# EAGLE library part TLV2170 (library ICs)
TLVx170 36-V, Single-Supply, EMI-Hardened, Low-Power Operational Amplifiers for Cost-Sensitive Systems
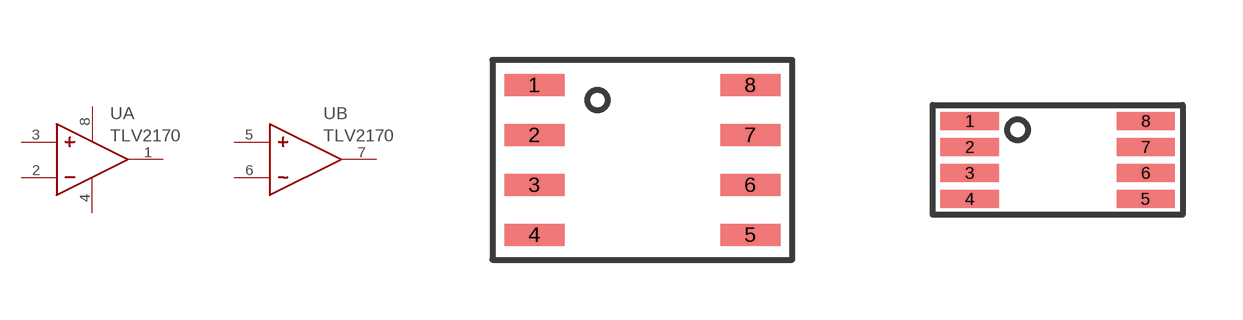
[diagram p212: symbol with the pads of SO8; footprints SO8, VSSOP8]

Designator prefix U; gates A=OPAMP_SUPPLIES B=OPAMP_NOSUPPLIES

## TLV2170IDR (DIGIKEY: 296-49845-1-ND; HEIGHT: 2; PRICE_PER: 2.49; VALUE: OPA2187)  [SO8]
1  A:OUT
2  A:-
3  A:+
4  A:V-
5  B:+
6  B:-
7  B:OUT
8  A:V+

## TLV2170DGK (DIGIKEY: 296-49971-1-ND; HEIGHT: 1; PRICE_PER: 0.94; VALUE: TLV2170)  [VSSOP8]
Pads as for SO8

## Footprint SO8 (pad centres in mm)
smd 1.5 x 0.55: 1 -2.7,1.875; 2 -2.7,0.625; 3 -2.7,-0.625; 4 -2.7,-1.875; 5 2.7,-1.875; 6 2.7,-0.625; 7 2.7,0.625; 8 2.7,1.875

## Footprint VSSOP8 (pad centres in mm)
smd 1.45 x 0.45: 1 -2.2,0.975; 2 -2.2,0.325; 3 -2.2,-0.325; 4 -2.2,-0.975; 5 2.2,-0.975; 6 2.2,-0.325; 7 2.2,0.325; 8 2.2,0.975